# EAGLE library part MICROSD (library MicroSdSocket)
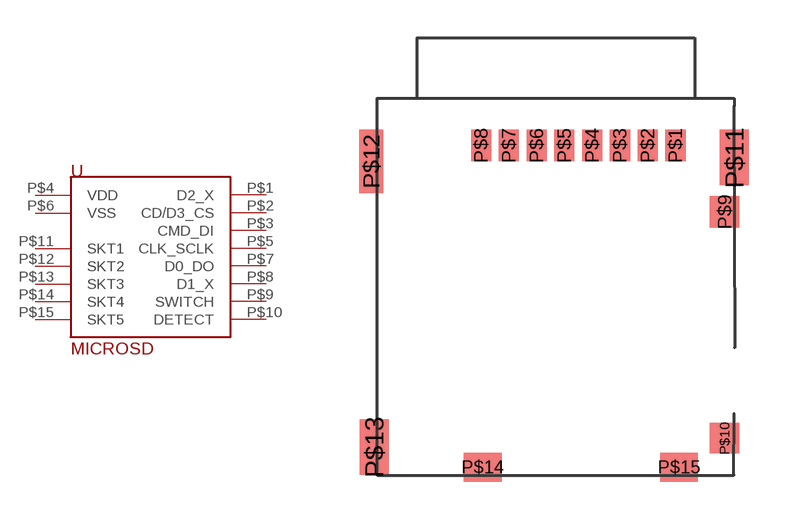
[diagram p0: symbol with the pads of MICRO_SD_PUSH-PUSH; footprint MICRO_SD_PUSH-PUSH]

Designator prefix -

## MICROSD  [MICRO_SD_PUSH-PUSH]
P$1  D2_X
P$2  CD/D3_CS
P$3  CMD_DI
P$4  VDD
P$5  CLK_SCLK
P$6  VSS
P$7  D0_DO
P$8  D1_X
P$9  SWITCH
P$10  DETECT
P$11  SKT1
P$12  SKT2
P$13  SKT3
P$14  SKT4
P$15  SKT5

## Footprint MICRO_SD_PUSH-PUSH (pad centres in mm)
Molex 5031821853
smd 0.8 x 1.24: P$1 5.1,5.73; P$2 4,5.73; P$3 2.9,5.73; P$4 1.8,5.73; P$5 0.7,5.73; P$6 -0.4,5.73; P$7 -1.5,5.73; P$8 -2.6,5.73
smd 1.16 x 1.25: P$9 7.04,3.1
smd 1.16 x 1.2: P$10 7.04,-5.88
smd 1.15 x 2.2: P$11 7.43,5.25; P$13 -6.84,-6.23
smd 0.95 x 2.5: P$12 -6.95,5.1
smd 1.5 x 1.15: P$14 -2.54,-7.03; P$15 5.24,-7.03